# EAGLE library part AD215 (library analog-devices)
120 kHz Bandwidth, Low Distortion, Isolation Amplifier Source: http://www.analog.com/static/imported-files/data_sheets/AD215.pdf
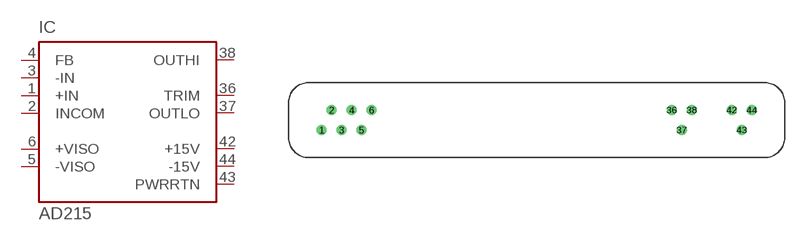
[diagram p44: symbol with the pads of AD215; footprint AD215]

Designator prefix IC

## AD215 (MF: ALTERA CORPORATION; MPN: AD215AY; OC_FARNELL: 1464281; OC_NEWARK: 09B5050)  [AD215]
1  +IN  in
2  INCOM  in
3  -IN  in
4  FB  in
5  -VISO  out
6  +VISO  out
36  TRIM  pas
37  OUTLO  out
38  OUTHI  out
42  +15V  in
43  PWRRTN  in
44  -15V  in

## Footprint AD215 (pad centres in mm)
AD215 SIP PACKAGE Source: http://www.analog.com/static/imported-files/data_sheets/AD215.pdf
drill 0.7 pad 1.27: 1 -27.305,-1.27; 2 -26.035,1.27; 3 -24.765,-1.27; 4 -23.495,1.27; 5 -22.225,-1.27; 6 -20.955,1.27; 36 17.145,1.27; 37 18.415,-1.27; 38 19.685,1.27; 42 24.765,1.27; 43 26.035,-1.27; 44 27.305,1.27